# EAGLE library part MAX4377 (library zz-m-pad-2.1)
Maxim (www.maxim-ic.com) Dual High-Side Current-Sense Amplifier with Internal Gain (20, 50, 100X gain)
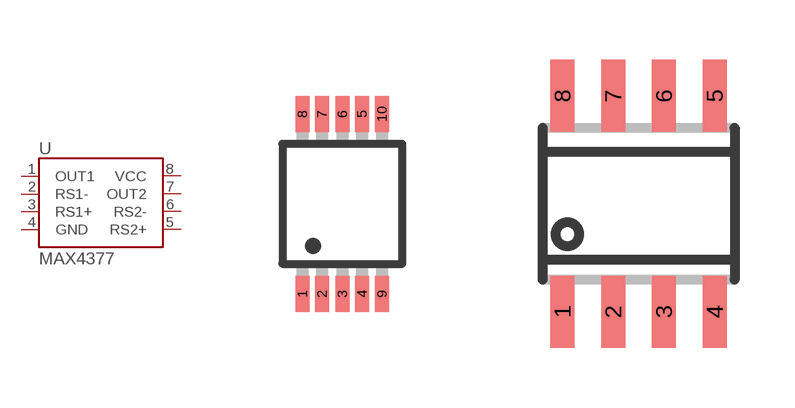
[diagram p26: symbol with the pads of MSOP10; footprints MSOP10, SOIC8]

Designator prefix U

## MAX4377U  [MSOP10]
1  OUT1  out
2  RS1-  pas
3  RS1+  pas
4  GND  pwr
5  RS2+  pas
6  RS2-  pas
7  OUT2  out
8  VCC  pwr

## MAX4377S  [SOIC8]
Pads as for MSOP10

## Footprint MSOP10 (pad centres in mm)
MSOP10
smd 0.35 x 0.9: 1 -1,-2.25; 2 -0.51,-2.25; 3 0,-2.25; 4 0.49,-2.25; 5 0.49,2.25; 6 0,2.25; 7 -0.51,2.25; 8 -1,2.25; 9 0.99,-2.25; 10 0.99,2.25

## Footprint SOIC8 (pad centres in mm)
Small Outline IC
smd 0.6 x 1.8: 1 -1.905,-2.7; 2 -0.635,-2.7; 3 0.635,-2.7; 4 1.905,-2.7; 5 1.905,2.7; 6 0.635,2.7; 7 -0.635,2.7; 8 -1.905,2.7